# Altium schematic symbol library DCconnectorFemale.SchLib: 1 symbol
Pins are listed as number, name and electrical type; pins without a type are passive.

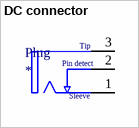
[diagram p0: symbol DC connector]

## DC connector
designator Plug
ComponentLink1Description: link; ComponentLink1URL: https://es.rs-online.com/web/p/conectores-de-alimentacion-dc/0448376; ComponentLink2Description: datasheet; ComponentLink2URL: https://docs.rs-online.com/902a/0900766b81582446.pdf
footprint DC connector female
pins: 1 Sleeve, 2 Pin Detect, 3 Tip
text: Pin detect